# Altium schematic symbol library Filters.SchLib: 18 symbols
Pins are listed as number, name and electrical type; pins without a type are passive.

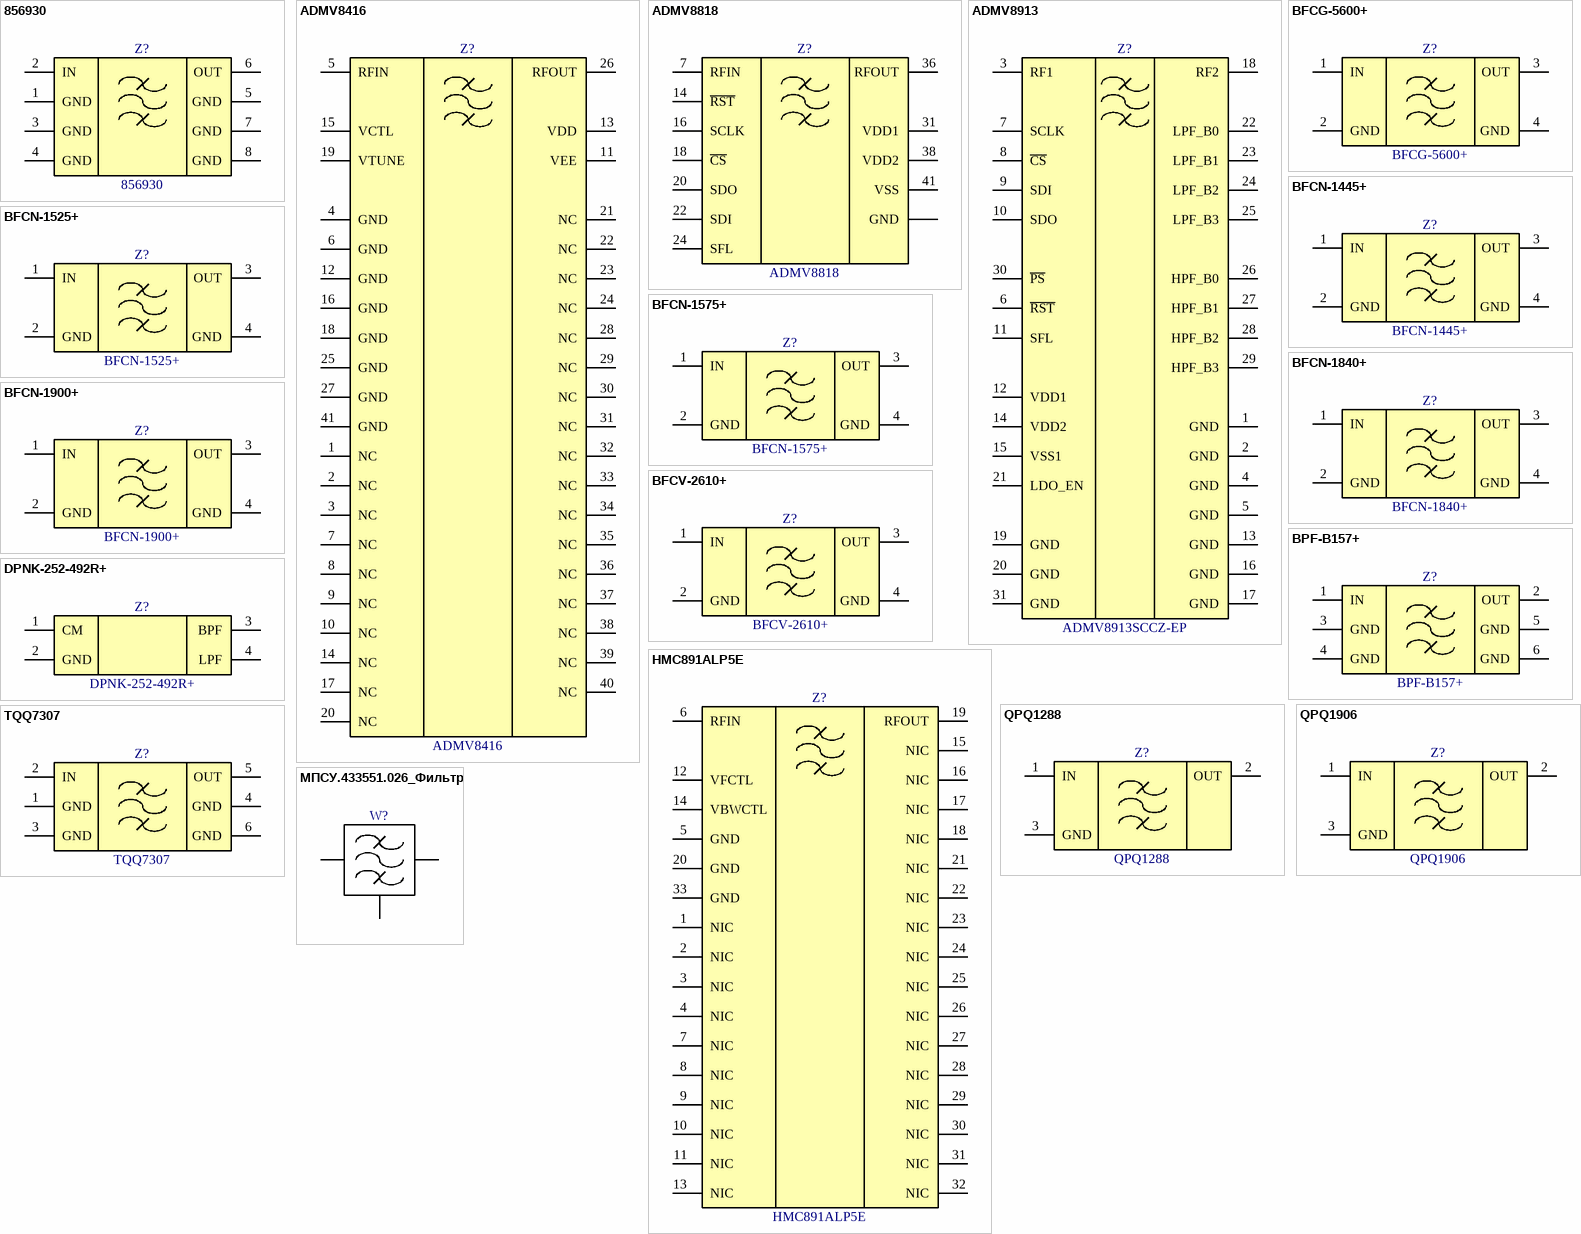
[diagram p0: symbols 856930 to МПСУ.433551.026_Фильтр]

## 856930
designator Z?
457.5 MHz SAW Filter; Manufacturer: Qorvo; PartNumber: 856930; ComponentLink1Description: Product Page; ComponentLink1URL: https://www.qorvo.com/products/p/856930; ComponentLink2Description: DataSheet; ComponentLink2URL: https://www.qorvo.com/products/d/da003067
footprint 856930 (Leadless Chip Carrier (LCC), 1.27 mm pitch; square, 3 pin X 1 pin, 3.80 mm L X 3.80 mm W X 1.45 mm H body)
pins: 1 GND, 2 IN, 3 GND, 4 GND, 5 GND, 6 OUT, 7 GND, 8 GND

## ADMV8416
designator Z?
6.3 GHz to 18 GHz, Tunable Band-Pass Filter; Manufacturer: Analog Devices; PartNumber: ADMV8416; ComponentLink1Description: Product Page; ComponentLink1URL: https://www.analog.com/en/products/admv8416.html; ComponentLink2Description: DataSheet; ComponentLink2URL: https://www.analog.com/media/en/technical-documentation/data-sheets/admv8416.pdf
footprint QFN41P50_600X600X80L30X25T470N (Quad Flat No-Lead (QFN with Tab), 0.50 mm pitch; square, 10 pin X 10 pin, 6.00 mm L X 6.00 mm W X 0.80 mm H body)
pins: 1 NC, 2 NC, 3 NC, 4 GND, 5 RFIN, 6 GND, 7 NC, 8 NC, 9 NC, 10 NC, 11 VEE, 12 GND, 13 VDD, 14 NC, 15 VCTL, 16 GND, 17 NC, 18 GND, 19 VTUNE, 20 NC, 21 NC, 22 NC, 23 NC, 24 NC, 25 GND, 26 RFOUT, 27 GND, 28 NC, 29 NC, 30 NC, 31 NC, 32 NC, 33 NC, 34 NC, 35 NC, 36 NC, 37 NC, 38 NC, 39 NC, 40 NC, 41 GND

## ADMV8818
designator Z?
2 GHz to 18 GHz, Digitally Tunable, / High-Pass and Low-Pass Filter; Manufacturer: Analog Devices; PartNumber: ADMV8818; ComponentLink1Description: Product Page; ComponentLink1URL: https://www.analog.com/en/products/admv8818.html; ComponentLink2Description: DataSheet; ComponentLink2URL: https://www.analog.com/media/en/technical-documentation/data-sheets/admv8818-ep.pdf
footprint QFN50P900X900X103_HS-57N (QFN, 56-Leads, Body 9.00x9.00mm, Pitch 0.50mm, Thermal Pad 6.40x6.40mm, IPC Medium Density)
pins: 1, 2, 3, 4, 5, 6, 8, 9, 10, 11, 12, 13, 15, 17, 19, 21, 23, 25, 26, 27, 28, 29, 30, 32, 33, 34, 35, 37, 38, 40, 42, 43, 44, 45, 46, 47, 48, 49, 50, 51, 52, 53, 54, 55, 56, 57 GND, 7 RFIN, 14 ~{RST}, 16 SCLK, 18 ~{CS}, 20 SDO, 22 SDI, 24 SFL, 31 VDD1, 36 RFOUT, 38 VDD2, 41 VSS

## ADMV8913
designator Z?, comment ADMV8913SCCZ-EP
X Band, Digitally Tunable, High-Pass Filter and Low-Pass Filter; Manufacturer: Analog Devices; PartNumber: ADMV8913SCCZ-EP; ComponentLink1Description: Product Page; ComponentLink1URL: https://www.analog.com/en/products/admv8913.html; ComponentLink2Description: DataSheet; ComponentLink2URL: https://www.analog.com/media/en/technical-documentation/data-sheets/admv8913-ep.pdf
footprint AD LGA CC-30-4 (Analog Devices 30-Terminal Land Grid Array Package [LGA] (CC-30-4))
pins: 1 GND, 2 GND, 3 RF1, 4 GND, 5 GND, 6 ~{RST}, 7 SCLK, 8 ~{CS}, 9 SDI, 10 SDO, 11 SFL, 12 VDD1, 13 GND, 14 VDD2, 15 VSS1, 16 GND, 17 GND, 18 RF2, 19 GND, 20 GND, 21 LDO_EN, 22 LPF_B0, 23 LPF_B1, 24 LPF_B2, 25 LPF_B3, 26 HPF_B0, 27 HPF_B1, 28 HPF_B2, 29 HPF_B3, 30 ~{PS}, 31 GND

## BFCG-5600+
designator Z?
LTCC Band Pass Filter, 5150 - 5990 MHz, 50Ω; Manufacturer: Mini-Circuits; PartNumber: BFCG-5600+; ComponentLink1Description: Product Page; ComponentLink1URL: https://www.minicircuits.com/WebStore/dashboard.html?model=BFCG-5600%2B; ComponentLink2Description: DataSheet; ComponentLink2URL: https://www.minicircuits.com/WebStore/dashboardPdf?model=BFCG-5600%2B
footprint GE0805C-3 (Mini-Circuits case GE0805C-3)
pins: 1 IN, 2 GND, 3 OUT, 4 GND

## BFCN-1445+
designator Z?
Bandpass Filter 50Ω 1420 to 1470 MHz; Manufacturer: Mini-Circuits; PartNumber: BFCN-1445+; ComponentLink1Description: Product Page; ComponentLink1URL: https://www.minicircuits.com/WebStore/dashboard.html?model=BFCN-1445%2B; ComponentLink2Description: DataSheet; ComponentLink2URL: https://www.minicircuits.com/WebStore/dashboardPdf?model=BFCN-1445%2B
footprint FV1206 (Mini-Circuits case FV1206)
pins: 1 IN, 2 GND, 3 OUT, 4 GND

## BFCN-1525+
designator Z?
Bandpass Filter 50Ω 1480 to 1570 MHz; Manufacturer: Mini-Circuits; PartNumber: BFCN-1525+; ComponentLink1Description: Product Page; ComponentLink1URL: https://www.minicircuits.com/WebStore/dashboard.html?model=BFCN-1525%2B; ComponentLink2Description: DataSheet; ComponentLink2URL: https://www.minicircuits.com/WebStore/dashboardPdf?model=BFCN-1525%2B
footprint FV1206 (Mini-Circuits case FV1206)
pins: 1 IN, 2 GND, 3 OUT, 4 GND

## BFCN-1575+
designator Z?
Bandpass Filter 50Ω 1530 to 1620 MHz; Manufacturer: Mini-Circuits; PartNumber: BFCN-1575+; ComponentLink1Description: Product Page; ComponentLink1URL: https://www.minicircuits.com/WebStore/dashboard.html?model=BFCN-1575%2B; ComponentLink2Description: DataSheet; ComponentLink2URL: https://www.minicircuits.com/WebStore/dashboardPdf?model=BFCN-1575%2B
footprint FV1206 (Mini-Circuits case FV1206)
pins: 1 IN, 2 GND, 3 OUT, 4 GND

## BFCN-1840+
designator Z?
Bandpass Filter 50Ω 1750 to 1930 MHz; Manufacturer: Mini-Circuits; PartNumber: BFCN-1840+; ComponentLink1Description: Product Page; ComponentLink1URL: https://www.minicircuits.com/WebStore/dashboard.html?model=BFCN-1840%2B; ComponentLink2Description: DataSheet; ComponentLink2URL: https://www.minicircuits.com/WebStore/dashboardPdf?model=BFCN-1840%2B
footprint FV1206 (Mini-Circuits case FV1206)
pins: 1 IN, 2 GND, 3 OUT, 4 GND

## BFCN-1900+
designator Z?
Bandpass Filter 50Ω 1893 to 1920 MHz; Manufacturer: Mini-Circuits; PartNumber: BFCN-1900+; ComponentLink1Description: Product Page; ComponentLink1URL: https://www.minicircuits.com/WebStore/dashboard.html?model=BFCN-1900%2B; ComponentLink2Description: DataSheet; ComponentLink2URL: https://www.minicircuits.com/WebStore/dashboardPdf?model=BFCN-1900%2B
footprint FV1206-5 (Mini-Circuits case FV1206-5)
pins: 1 IN, 2 GND, 3 OUT, 4 GND

## BFCV-2610+
designator Z?
Ceramic LTCC Bandpass Filter 50Ω 2000 to 3220 MHz; Manufacturer: Mini-Circuits; PartNumber: BFCV-2610+; ComponentLink1Description: Product Page; ComponentLink1URL: https://www.minicircuits.com/WebStore/dashboard.html?model=BFCV-2610%2B; ComponentLink2Description: DataSheet; ComponentLink2URL: https://www.minicircuits.com/WebStore/dashboardPdf?model=BFCV-2610%2B
footprint JV1210C (Mini-Circuits CASE JV1210C)
pins: 1 IN, 2 GND, 3 OUT, 4 GND

## BPF-B157+
designator Z?
Bandpass Filter 50Ω 151 to 163 MHz; Manufacturer: Mini-Circuits; PartNumber: BPF-B157+; ComponentLink1Description: Product Page; ComponentLink1URL: https://www.minicircuits.com/WebStore/dashboard.html?model=BPF-B157%2B; ComponentLink2Description: DataSheet; ComponentLink2URL: https://www.minicircuits.com/WebStore/dashboardPdf?model=BPF-B157%2B
footprint HZ1198 (Mini-Circuits CASE HZ1198)
pins: 1 IN, 2 OUT, 3 GND, 4 GND, 5 GND, 6 GND

## DPNK-252-492R+
designator Z?
LTCC Diplexer, 2400-2500/5150-5850 MHz, 50Ω; Manufacturer: Mini-Circuits; PartNumber: DPNK-252-492R+; ComponentLink1Description: Product Page; ComponentLink1URL: https://www.minicircuits.com/WebStore/dashboard.html?model=DPNK-252-492R%2B; ComponentLink2Description: DataSheet; ComponentLink2URL: https://www.minicircuits.com/WebStore/dashboardPdf?model=DPNK-252-492R%2B
footprint NK0402C (Mini-Circuits case NK0402C)
pins: 1 CM, 2 GND, 3 BPF, 4 LPF

## HMC891ALP5E
designator Z?
1.95 GHz to 3.4 GHz, Tunable Band-Pass Filter; Manufacturer: Analog Devices; PartNumber: HMC891ALP5E; ComponentLink1Description: Product Page; ComponentLink1URL: https://www.analog.com/en/products/hmc891a.html; ComponentLink2Description: DataSheet; ComponentLink2URL: https://www.analog.com/media/en/technical-documentation/data-sheets/HMC891ALP5E.pdf
footprint QFN33P50_500X500X80L40X24T365N (Quad Flat No-Lead (QFN with Tab), 0.50 mm pitch; square, 8 pin X 8 pin, 5.00 mm L X 5.00 mm W X 0.80 mm H body)
pins: 1 NIC, 2 NIC, 3 NIC, 4 NIC, 5 GND, 6 RFIN, 7 NIC, 8 NIC, 9 NIC, 10 NIC, 11 NIC, 12 VFCTL, 13 NIC, 14 VBWCTL, 15 NIC, 16 NIC, 17 NIC, 18 NIC, 19 RFOUT, 20 GND, 21 NIC, 22 NIC, 23 NIC, 24 NIC, 25 NIC, 26 NIC, 27 NIC, 28 NIC, 29 NIC, 30 NIC, 31 NIC, 32 NIC, 33 GND

## QPQ1288
designator Z?
2345 MHz BAW Filter; Manufacturer: Qorvo; PartNumber: QPQ1288; ComponentLink1Description: Product Page; ComponentLink1URL: https://www.qorvo.com/products/p/QPQ1288; ComponentLink2Description: DataSheet; ComponentLink2URL: https://www.qorvo.com/products/d/da003676
footprint QPQ1288 (Qorvo QPQ1288)
pins: 1 IN, 2 OUT, 3 GND

## QPQ1906
designator Z?
Wi-Fi/IoTbandBoostFilter; Manufacturer: Qorvo; PartNumber: QPQ1906; ComponentLink1Description: Product Page; ComponentLink1URL: https://www.qorvo.com/products/p/QPQ1906; ComponentLink2Description: DataSheet; ComponentLink2URL: https://www.qorvo.com/products/d/da007259
footprint QPQ1906 (Qorvo QPQ1906)
pins: 1 IN, 2 OUT, 3 GND

## TQQ7307
designator Z?
2535 MHz LTE Band 7 Uplink BAW Filter; Manufacturer: Qorvo; PartNumber: TQQ7307; ComponentLink1Description: Product Page; ComponentLink1URL: https://www.qorvo.com/products/p/TQQ7307; ComponentLink2Description: DataSheet; ComponentLink2URL: https://www.qorvo.com/products/d/da005808
footprint PSON6P110_300X300X109L65X60N (Pullback Small Outline No-Lead (PSON), 1.10 mm pitch; 6 pin, 3.00 mm L X 3.00 mm W X 1.09 mm H body)
pins: 1 GND, 2 IN, 3 GND, 4 GND, 5 OUT, 6 GND

## МПСУ.433551.026_Фильтр
designator W?, comment FilterZigzag  (value not drawn)  (net tie, no BOM)
Фильтр пъезокерамичсекий, полоснопропускающий, 5,2..5,7 ГГц; PartNumber: МПСУ.433551.026
footprint МПСУ.433551.026_Фильтр (Фильтр пъезокерамичсекий, полоснопропускающий, 5,2..5,7 ГГц)
pins: 1, 2, 3